# EAGLE library part AK100 (library Kolja)
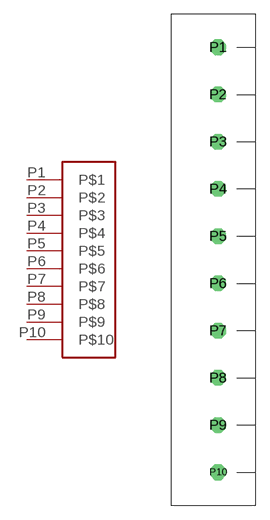
[diagram p15: symbol with the pads of AK100; footprint AK100]

Designator prefix -

## AK100  [AK100]
P1  P$1
P2  P$2
P3  P$3
P4  P$4
P5  P$5
P6  P$6
P7  P$7
P8  P$8
P9  P$9
P10  P$10

## Footprint AK100 (pad centres in mm)
drill 1.1 octagon: P1 0,20; P2 0,15; P3 0,10; P4 0,5; P5 0,0; P6 0,-5; P7 0,-10; P8 0,-15; P9 0,-20; P10 0,-25